# EAGLE library part SANGUINO (library reprap)
See http://www.sanguino.cc
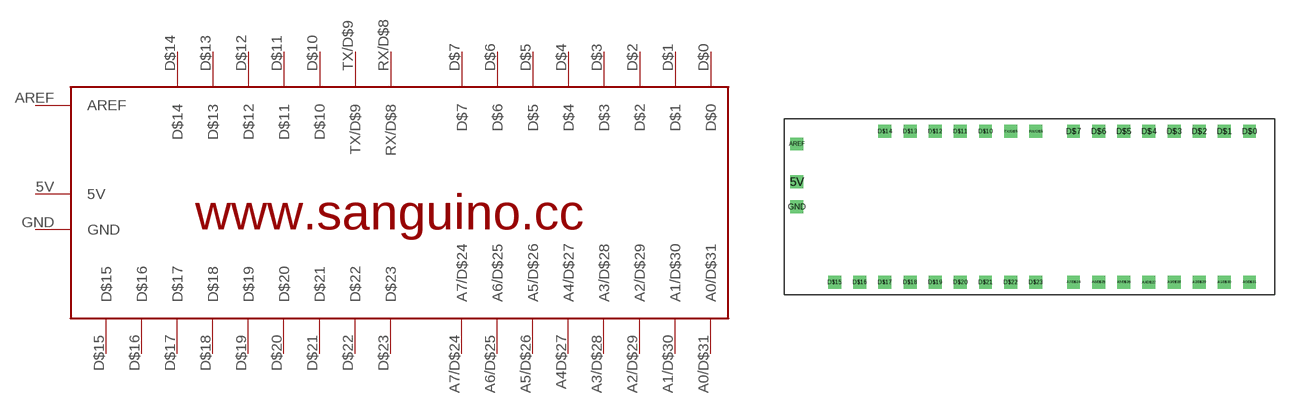
[diagram p9: symbol with the pads of SANGUINO; footprint SANGUINO]

Designator prefix -

## SANGUINO  [SANGUINO]
5V  5V  pwr
A0/D$31  A0/D$31
A1/D$30  A1/D$30
A2/D$29  A2/D$29
A3/D$28  A3/D$28
A4D$27  A4/D$27
A5/D$26  A5/D$26
A6/D$25  A6/D$25
A7/D$24  A7/D$24
AREF  AREF  out
D$0  D$0
D$1  D$1
D$2  D$2
D$3  D$3
D$4  D$4
D$5  D$5
D$6  D$6
D$7  D$7
D$10  D$10
D$11  D$11
D$12  D$12
D$13  D$13
D$14  D$14
D$15  D$15
D$16  D$16
D$17  D$17
D$18  D$18
D$19  D$19
D$20  D$20
D$21  D$21
D$22  D$22
D$23  D$23
GND  GND  pwr
RX/D$8  RX/D$8
TX/D$9  TX/D$9

## Footprint SANGUINO (pad centres in mm)
drill 0.8 square: 5V -22.86,3.81; A0/D$31 22.86,-6.35; A1/D$30 20.32,-6.35; A2/D$29 17.78,-6.35; A3/D$28 15.24,-6.35; A4D$27 12.7,-6.35; A5/D$26 10.16,-6.35; A6/D$25 7.62,-6.35; A7/D$24 5.08,-6.35; AREF -22.86,7.62; D$0 22.86,8.89; D$1 20.32,8.89; D$2 17.78,8.89; D$3 15.24,8.89; D$4 12.7,8.89; D$5 10.16,8.89; D$6 7.62,8.89; D$7 5.08,8.89; D$10 -3.81,8.89; D$11 -6.35,8.89; D$12 -8.89,8.89; D$13 -11.43,8.89; D$14 -13.97,8.89; D$15 -19.05,-6.35; D$16 -16.51,-6.35; D$17 -13.97,-6.35; D$18 -11.43,-6.35; D$19 -8.89,-6.35; D$20 -6.35,-6.35; D$21 -3.81,-6.35; D$22 -1.27,-6.35; D$23 1.27,-6.35; GND -22.86,1.27; RX/D$8 1.27,8.89; TX/D$9 -1.27,8.89